# Altium footprint library Miscellaneous Devices LC EXT.PcbLib: 3 footprints
Each footprint in its own frame and in the unit in brackets; x right, y up, seen from the top. Pads: shape width x height; smd on the part's side, far side on the other; paste and mask are expansions set on the pad; w line width, h text height; cw(c..) or ccw(c..) is an arc to the next point about the centre after c.
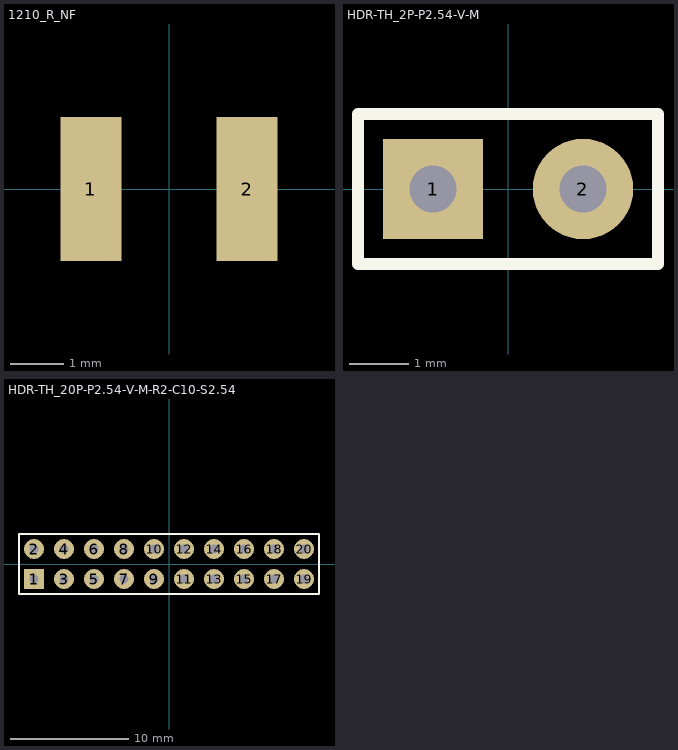
[diagram p0: the footprints below, top view; thin cyan lines are the x and y axes]

## 1210_R_NF [mm]
pads (2):
  rect 1.16x2.72 smd: 1(-1.475,0) 2(1.475,0)
3D body "User Library-R_1210.STEP": height 0.6, standoff 0, extent -1.6,-1.25 1.6,1.25

## HDR-TH_2P-P2.54-V-M [mm]
pads (2):
  rect 1.7x1.7 hole 0.8: 1(-1.27,0)
  round 1.7 hole 0.8: 2(1.27,0)
Top Overlay:
  lines w0.203: -2.54,-1.27 2.54,-1.27 2.54,1.27 -0.635,1.27 -2.54,1.27 -2.54,-1.27
3D body "PinHeader_1x02_P2.54mm_Vertical.step": height 8.54, standoff -3, extent -2.54,-1.27 2.54,1.27

## HDR-TH_20P-P2.54-V-M-R2-C10-S2.54 [mm]
pads (20):
  rect 1.7x1.7 hole 0.8: 1(-11.43,-1.27)
  round 1.7 hole 0.8: 2(-11.43,1.27) 3(-8.89,-1.27) 4(-8.89,1.27) 5(-6.35,-1.27) 6(-6.35,1.27) 7(-3.81,-1.27) 8(-3.81,1.27) 9(-1.27,-1.27) 10(-1.27,1.27) 11(1.27,-1.27) 12(1.27,1.27) 13(3.81,-1.27) 14(3.81,1.27) 15(6.35,-1.27) 16(6.35,1.27) 17(8.89,-1.27) 18(8.89,1.27) 19(11.43,-1.27) 20(11.43,1.27)
Top Overlay:
  lines w0.203: -12.7,-2.54 -10.795,-2.54 12.7,-2.54 12.7,2.54 -10.795,2.54 -12.7,2.54 -12.7,-2.54
3D body "PinHeader_2x10_P2.54mm_Vertical.step": height 8.54, standoff -3, extent -12.67,-2.567 12.73,2.513